# EAGLE library part PWR_TPS65217_2_U_48_RSL_TPS6521 (library BeagleBone_Black_egl)
PWR_TPS65217_2_U_48_RSL_TPS6521
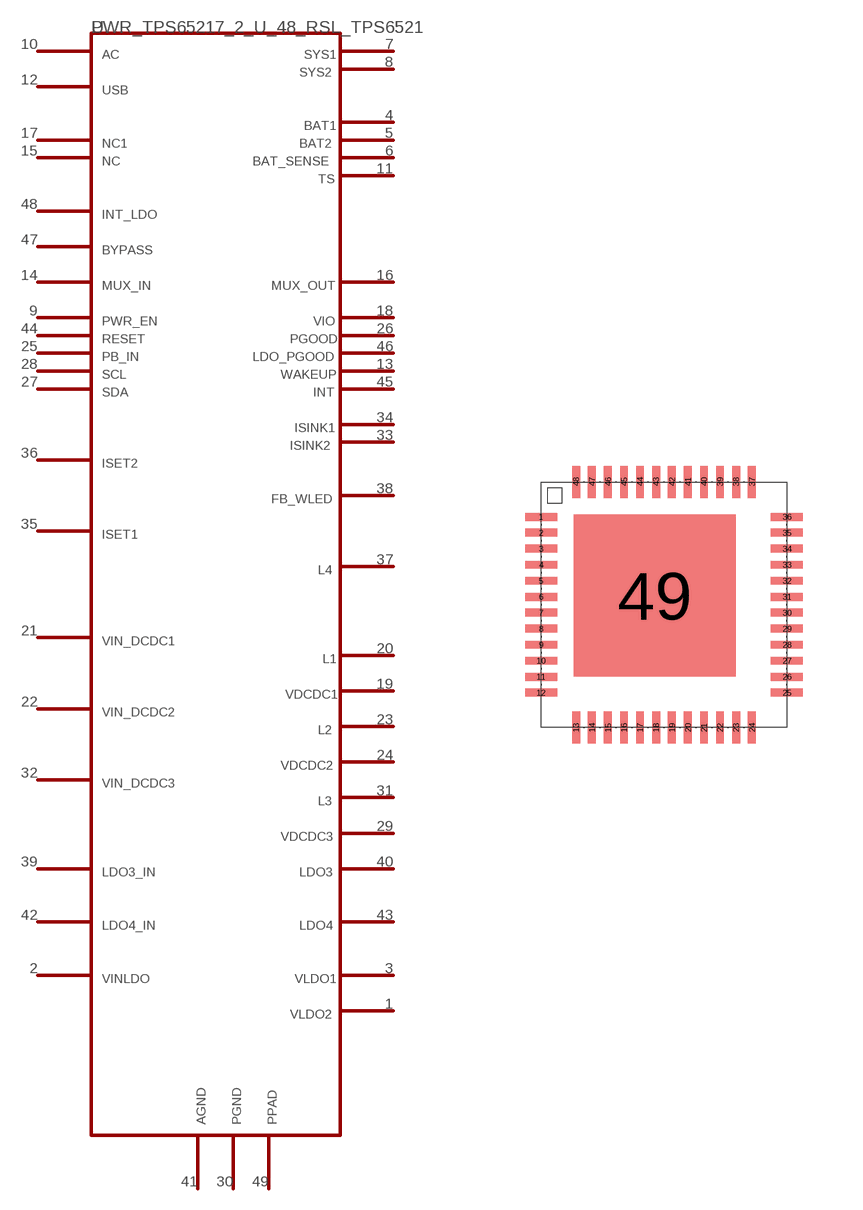
[diagram p18: symbol with the pads of U_48_RSL; footprint U_48_RSL]

Designator prefix -

## PWR_TPS65217_2_U_48_RSL_TPS6521  [U_48_RSL]
1  44
2  42
3  43
4  5
5  6
6  7
7  3
8  4
9  13
10  1
11  8
12  2
13  27
14  10
15  47
16  9
17  48
18  24
19  31
20  30
21  29
22  32
23  33
24  34
25  15
26  25
27  17
28  16
29  37
30  46
31  36
32  35
33  21
34  20
35  22
36  23
37  18
38  19
39  40
40  38
41  45
42  41
43  39
44  14
45  28
46  26
47  12
48  11
49  49

## Footprint U_48_RSL (pad centres in mm)
smd 0.8 x 0.2: 1 -3.075,2.2; 2 -3.075,1.8; 3 -3.075,1.4; 4 -3.075,1; 5 -3.075,0.6; 6 -3.075,0.2; 7 -3.075,-0.2; 8 -3.075,-0.6; 9 -3.075,-1; 10 -3.075,-1.4; 11 -3.075,-1.8; 12 -3.075,-2.2; 25 3.075,-2.2; 26 3.075,-1.8; 27 3.075,-1.4; 28 3.075,-1; 29 3.075,-0.6; 30 3.075,-0.2; 31 3.075,0.2; 32 3.075,0.6; 33 3.075,1; 34 3.075,1.4; 35 3.075,1.8; 36 3.075,2.2
smd 0.2 x 0.8: 13 -2.2,-3.075; 14 -1.8,-3.075; 15 -1.4,-3.075; 16 -1,-3.075; 17 -0.6,-3.075; 18 -0.2,-3.075; 19 0.2,-3.075; 20 0.6,-3.075; 21 1,-3.075; 22 1.4,-3.075; 23 1.8,-3.075; 24 2.2,-3.075; 37 2.2,3.075; 38 1.8,3.075; 39 1.4,3.075; 40 1,3.075; 41 0.6,3.075; 42 0.2,3.075; 43 -0.2,3.075; 44 -0.6,3.075; 45 -1,3.075; 46 -1.4,3.075; 47 -1.8,3.075; 48 -2.2,3.075
smd 4.05 x 4.05: 49 -0.225,0.225